# EAGLE library part 2064VET100 (library lattice)
LATTICE PROGRAMMABLE DEVICE Source: http://www.latticesemi.com/lit/docs/datasheets/cpld/2064v.pdf / 2064ve.pdf
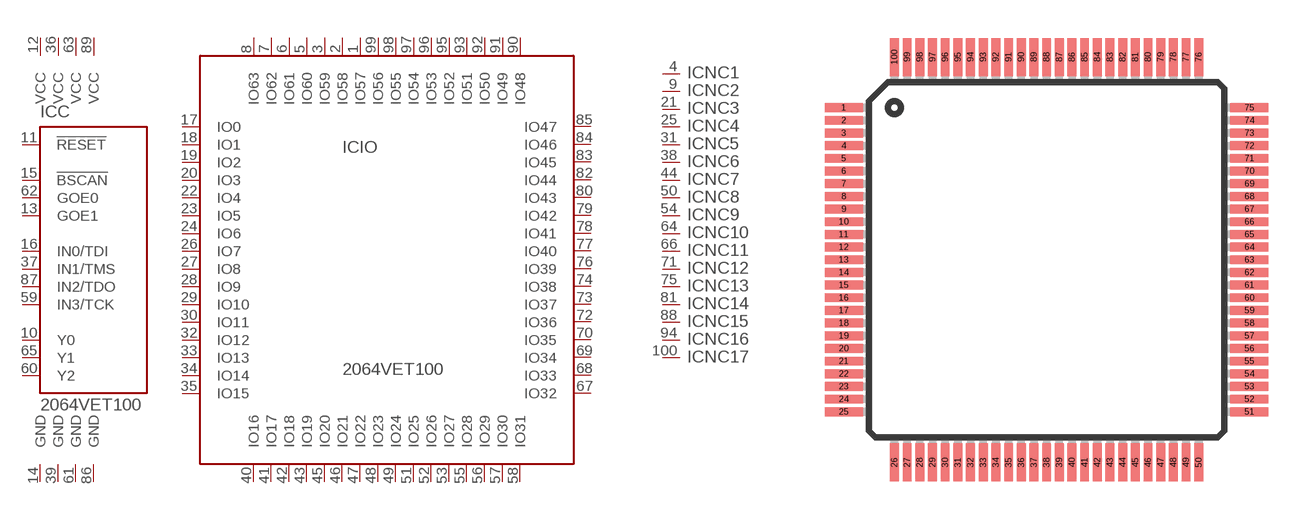
[diagram p14: symbol with the pads of TQFP100; footprint TQFP100]

Designator prefix IC; gates C=LSI2064E IO=LSI2064 G1=GND G2=GND G3=GND G4=GND V1=VCC V2=VCC V3=VCC V4=VCC NC1=NC NC2=NC NC3=NC NC4=NC NC5=NC NC6=NC NC7=NC NC8=NC NC9=NC NC10=NC NC11=NC NC12=NC NC13=NC NC14=NC NC15=NC NC16=NC NC17=NC

## 2064VET100 (OC_FARNELL: unknown; OC_NEWARK: unknown)  [TQFP100]
1  IO:IO57
2  IO:IO58
3  IO:IO59
4  NC1:NC  nc
5  IO:IO60
6  IO:IO61
7  IO:IO62
8  IO:IO63
9  NC2:NC  nc
10  C:Y0  in
11  C:!RESET  in
12  V1:VCC  pwr
13  C:GOE1  in
14  G1:GND  pwr
15  C:!BSCAN  in
16  C:IN0/TDI  in
17  IO:IO0
18  IO:IO1
19  IO:IO2
20  IO:IO3
21  NC3:NC  nc
22  IO:IO4
23  IO:IO5
24  IO:IO6
25  NC4:NC  nc
26  IO:IO7
27  IO:IO8
28  IO:IO9
29  IO:IO10
30  IO:IO11
31  NC5:NC  nc
32  IO:IO12
33  IO:IO13
34  IO:IO14
35  IO:IO15
36  V2:VCC  pwr
37  C:IN1/TMS  in
38  NC6:NC  nc
39  G2:GND  pwr
40  IO:IO16
41  IO:IO17
42  IO:IO18
43  IO:IO19
44  NC7:NC  nc
45  IO:IO20
46  IO:IO21
47  IO:IO22
48  IO:IO23
49  IO:IO24
50  NC8:NC  nc
51  IO:IO25
52  IO:IO26
53  IO:IO27
54  NC9:NC  nc
55  IO:IO28
56  IO:IO29
57  IO:IO30
58  IO:IO31
59  C:IN3/TCK  in
60  C:Y2  in
61  G3:GND  pwr
62  C:GOE0  in
63  V3:VCC  pwr
64  NC10:NC  nc
65  C:Y1  in
66  NC11:NC  nc
67  IO:IO32
68  IO:IO33
69  IO:IO34
70  IO:IO35
71  NC12:NC  nc
72  IO:IO36
73  IO:IO37
74  IO:IO38
75  NC13:NC  nc
76  IO:IO39
77  IO:IO40
78  IO:IO41
79  IO:IO42
80  IO:IO43
81  NC14:NC  nc
82  IO:IO44
83  IO:IO45
84  IO:IO46
85  IO:IO47
86  G4:GND  pwr
87  C:IN2/TDO  in
88  NC15:NC  nc
89  V4:VCC  pwr
90  IO:IO48
91  IO:IO49
92  IO:IO50
93  IO:IO51
94  NC16:NC  nc
95  IO:IO52
96  IO:IO53
97  IO:IO54
98  IO:IO55
99  IO:IO56
100  NC17:NC  nc

## Footprint TQFP100 (pad centres in mm)
Thin Quad Flat Package
smd 1.5 x 0.35: 1 -8,6; 2 -8,5.5; 3 -8,5; 4 -8,4.5; 5 -8,4; 6 -8,3.5; 7 -8,3; 8 -8,2.5; 9 -8,2; 10 -8,1.5; 11 -8,1; 12 -8,0.5; 13 -8,0; 14 -8,-0.5; 15 -8,-1; 16 -8,-1.5; 17 -8,-2; 18 -8,-2.5; 19 -8,-3; 20 -8,-3.5; 21 -8,-4; 22 -8,-4.5; 23 -8,-5; 24 -8,-5.5; 25 -8,-6; 51 8,-6; 52 8,-5.5; 53 8,-5; 54 8,-4.5; 55 8,-4; 56 8,-3.5; 57 8,-3; 58 8,-2.5; 59 8,-2; 60 8,-1.5; 61 8,-1; 62 8,-0.5; 63 8,0; 64 8,0.5; 65 8,1; 66 8,1.5; 67 8,2; 68 8,2.5; 69 8,3; 70 8,3.5; 71 8,4; 72 8,4.5; 73 8,5; 74 8,5.5; 75 8,6
smd 0.35 x 1.5: 26 -6,-8; 27 -5.5,-8; 28 -5,-8; 29 -4.5,-8; 30 -4,-8; 31 -3.5,-8; 32 -3,-8; 33 -2.5,-8; 34 -2,-8; 35 -1.5,-8; 36 -1,-8; 37 -0.5,-8; 38 0,-8; 39 0.5,-8; 40 1,-8; 41 1.5,-8; 42 2,-8; 43 2.5,-8; 44 3,-8; 45 3.5,-8; 46 4,-8; 47 4.5,-8; 48 5,-8; 49 5.5,-8; 50 6,-8; 76 6,8; 77 5.5,8; 78 5,8; 79 4.5,8; 80 4,8; 81 3.5,8; 82 3,8; 83 2.5,8; 84 2,8; 85 1.5,8; 86 1,8; 87 0.5,8; 88 0,8; 89 -0.5,8; 90 -1,8; 91 -1.5,8; 92 -2,8; 93 -2.5,8; 94 -3,8; 95 -3.5,8; 96 -4,8; 97 -4.5,8; 98 -5,8; 99 -5.5,8; 100 -6,8